# Altium schematic symbol library 691 357 310 0xx B.SchLib: 6 symbols
Pins are listed as number, name and electrical type; pins without a type are passive.

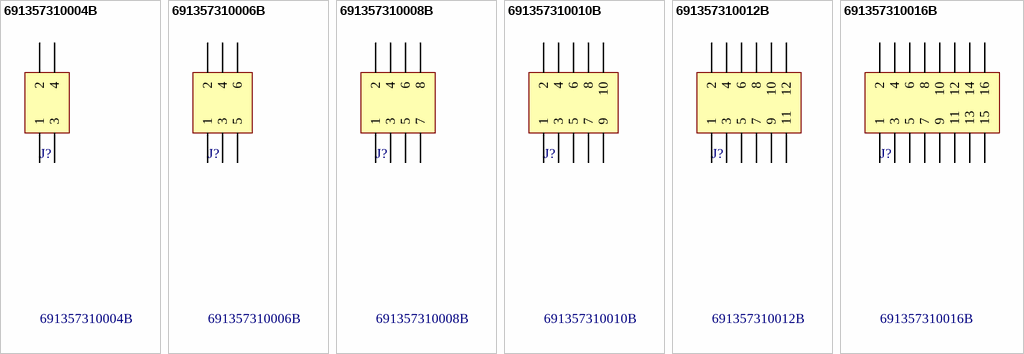
[diagram p0: symbols 691357310004B to 691357310016B]

## 691357310004B
designator J?
WR-TBL Terminal block - serie 357 B - 3.81 mm; Manufacturer: Würth Elektronik eiSos GmbH; ComponentLink1 Description: Manufacturer; ComponentLink2 Description: Datasheet; NoPins: 04; Created Date: 6 January 2014; partNo: 691357310004B; ComponentLink1URL: http://www.we-online.com; ComponentLink2URL: http://katalog.we-online.de/em/datasheet/6913573100xxB.pdf; Created by: Karrer Zheng
footprint 691357310004B (3,81mm - PCB - Double level - Horizontal - with flanges - 04p)
pins: 1, 2, 3, 4

## 691357310006B
designator J?
WR-TBL Terminal block - serie 357 B - 3.81 mm; Manufacturer: Würth Elektronik eiSos GmbH; ComponentLink1 Description: Manufacturer; ComponentLink2 Description: Datasheet; NoPins: 06; Created Date: 6 January 2014; partNo: 691357310006B; ComponentLink1URL: http://www.we-online.com; ComponentLink2URL: http://katalog.we-online.de/em/datasheet/6913573100xxB.pdf; Created by: Karrer Zheng
footprint 691357310006B (3,81mm - PCB - Double level - Horizontal - with flanges - 06p)
pins: 1, 2, 3, 4, 5, 6

## 691357310008B
designator J?
WR-TBL Terminal block - serie 357 B - 3.81 mm; Manufacturer: Würth Elektronik eiSos GmbH; ComponentLink1 Description: Manufacturer; ComponentLink2 Description: Datasheet; NoPins: 08; Created Date: 6 January 2014; partNo: 691357310008B; ComponentLink1URL: http://www.we-online.com; ComponentLink2URL: http://katalog.we-online.de/em/datasheet/6913573100xxB.pdf; Created by: Karrer Zheng
footprint 691357310008B (3,81mm - PCB - Double level - Horizontal - with flanges - 08p)
pins: 1, 2, 3, 4, 5, 6, 7, 8

## 691357310010B
designator J?
WR-TBL Terminal block - serie 357 B - 3.81 mm; Manufacturer: Würth Elektronik eiSos GmbH; ComponentLink1 Description: Manufacturer; ComponentLink2 Description: Datasheet; NoPins: 10; Created Date: 6 January 2014; partNo: 691357310010B; ComponentLink1URL: http://www.we-online.com; ComponentLink2URL: http://katalog.we-online.de/em/datasheet/6913573100xxB.pdf; Created by: Karrer Zheng
footprint 691357310010B (3,81mm - PCB - Double level - Horizontal - with flanges - 10p)
pins: 1, 2, 3, 4, 5, 6, 7, 8, 9, 10

## 691357310012B
designator J?
WR-TBL Terminal block - serie 357 B - 3.81 mm; Manufacturer: Würth Elektronik eiSos GmbH; ComponentLink1 Description: Manufacturer; ComponentLink2 Description: Datasheet; NoPins: 12; Created Date: 6 January 2014; partNo: 691357310012B; ComponentLink1URL: http://www.we-online.com; ComponentLink2URL: http://katalog.we-online.de/em/datasheet/6913573100xxB.pdf; Created by: Karrer Zheng
footprint 691357310012B (3,81mm - PCB - Double level - Horizontal - with flanges - 12p)
pins: 1, 2, 3, 4, 5, 6, 7, 8, 9, 10, 11, 12

## 691357310016B
designator J?
WR-TBL Terminal block - serie 357 B - 3.81 mm; Manufacturer: Würth Elektronik eiSos GmbH; ComponentLink1 Description: Manufacturer; ComponentLink2 Description: Datasheet; NoPins: 16; Created Date: 6 January 2014; partNo: 691357310016B; ComponentLink1URL: http://www.we-online.com; ComponentLink2URL: http://katalog.we-online.de/em/datasheet/6913573100xxB.pdf; Created by: Karrer Zheng
footprint 691357310016B (3,81mm - PCB - Double level - Horizontal - with flanges - 16p)
pins: 1, 2, 3, 4, 5, 6, 7, 8, 9, 10, 11, 12, 13, 14, 15, 16